# Altium schematic symbol library WtB_6_connector.SchLib: 1 symbol
Pins are listed as number, name and electrical type; pins without a type are passive.

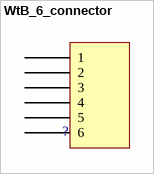
[diagram p0: symbol WtB_6_connector]

## WtB_6_connector
designator ?, comment ?  (value not drawn)  (no BOM)
Wire to board connector 6pin
footprint 6W_connector
pins: 1, 2, 3, 4, 5, 6